# Altium schematic symbol library SCH - POWER - LINEAR VREG - TI LP38851MR-ADJ.SchLib: 1 symbol
Pins are listed as number, name and electrical type; pins without a type are passive.

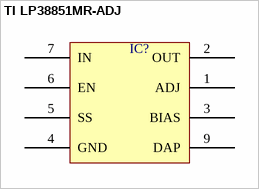
[diagram p0: symbol TI LP38851MR-ADJ]

## TI LP38851MR-ADJ
designator IC?  (value not drawn)
pins: 1 ADJ, 2 OUT, 3 BIAS, 4 GND, 5 SS, 6 EN, 7 IN, 9 DAP